# Altium schematic symbol library ESDALC6V1W5.SchLib: 1 symbol
Pins are listed as number, name and electrical type; pins without a type are passive.

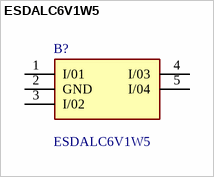
[diagram p0: symbol ESDALC6V1W5]

## ESDALC6V1W5
designator B?
TVS Diode Array Uni-Directional ESDALC6V1W5 Quad, 25W, SOT-323 5-Pin; Manufacturer_Name: STMicroelectronics; Geometry.Height: 1.1mm; Mouser Part Number: 511-ESDALC6V1W5; Mouser Price/Stock: https://www.mouser.co.uk/ProductDetail/STMicroelectronics/ESDALC6V1W5?qs=C%2FEejvvdwQ4xcyFnfrFaDw%3D%3D; Manufacturer_Part_Number: ESDALC6V1W5; Datasheet Link: http://www.st.com/web/en/resource/technical/document/datasheet/CD00002946.pdf
footprint SOT65P210X110-5N
pins: 1 I/01, 2 GND, 3 I/02, 4 I/03, 5 I/04